# EAGLE library part ELE02_HC05_06 (library ele02)
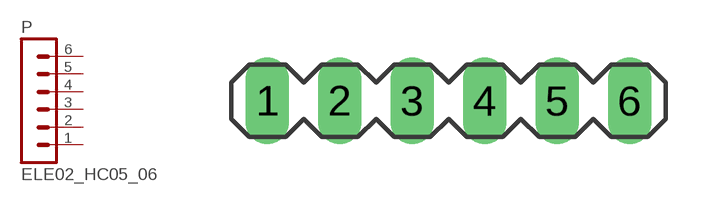
[diagram p5: symbol with the pads of ELE02_HC_BLUETOOTH; footprint ELE02_HC_BLUETOOTH]

Designator prefix P

## ELE02_HC05_06  [ELE02_HC_BLUETOOTH]
1  1  nc
2  2  pas
3  3  pas
4  4  pas
5  5  pas
6  6  nc

## Footprint ELE02_HC_BLUETOOTH (pad centres in mm)
PIN HEADER
drill 1.016 long: 1 -6.35,0; 2 -3.81,0; 3 -1.27,0; 4 1.27,0; 5 3.81,0; 6 6.35,0